# EAGLE library part UC27201A (library temp)
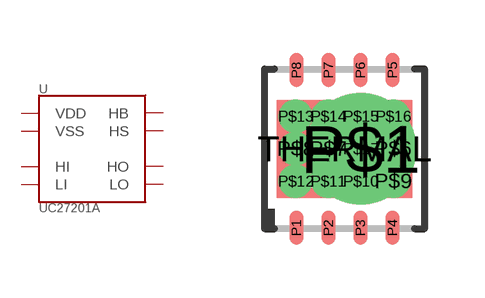
[diagram p0: symbol with the pads of SON-8; footprint SON-8]

Designator prefix U

## UC27201ASON8  [SON-8]
P1  VDD  pwr
P2  HO  out
P3  HB  pwr
P4  HS  pwr
P5  HI  in
P6  LI  in
P7  VSS  pwr
P8  LO  out
THERMAL  VSS  pwr

## Footprint SON-8 (pad centres in mm)
smd 0.35 x 0.85: P1 -1.2,-1.975; P2 -0.4,-1.975; P3 0.4,-1.975; P4 1.2,-1.975; P5 1.2,1.975; P6 0.4,1.975; P7 -0.4,1.975; P8 -1.2,1.975
drill 1.854 pad 0.508: P$1 0.406,0
drill 0.33 pad 0.508: P$6 1.219,0; P$7 -0.406,0; P$8 -1.219,0; P$9 1.219,-0.813; P$10 0.406,-0.813; P$11 -0.406,-0.813; P$12 -1.219,-0.813; P$13 -1.219,0.813; P$14 -0.406,0.813; P$15 0.406,0.813; P$16 1.219,0.813; P$17 0.406,0
smd 3.38 x 2.45: THERMAL 0,0